# EAGLE library part PINHD-1X25 (library pinhead)
PIN HEADER
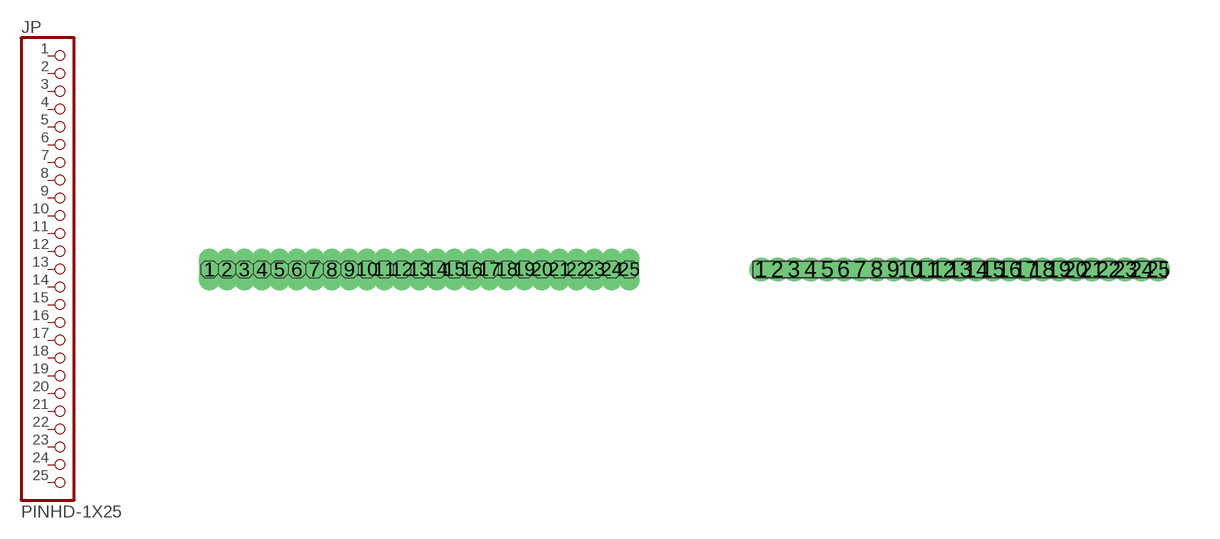
[diagram p17: symbol with the pads of 1X25; footprints 1X25, 2802S-02G2]

Designator prefix JP

## PINHD-1X25  [1X25]
1  1  pas
2  2  pas
3  3  pas
4  4  pas
5  5  pas
6  6  pas
7  7  pas
8  8  pas
9  9  pas
10  10  pas
11  11  pas
12  12  pas
13  13  pas
14  14  pas
15  15  pas
16  16  pas
17  17  pas
18  18  pas
19  19  pas
20  20  pas
21  21  pas
22  22  pas
23  23  pas
24  24  pas
25  25  pas

## PINHD-1X25_2802S-02G2  [2802S-02G2]
Pads as for 1X25

## Footprint 1X25 (pad centres in mm)
PIN HEADER
drill 0.254 long: 1 -7.303,0; 2 -6.668,0; 3 -6.032,0; 4 -5.397,0; 5 -4.763,0; 6 -4.128,0; 7 -3.493,0; 8 -2.857,0; 9 -2.223,0; 10 -1.587,0; 11 -0.953,0; 12 -0.318,0; 13 0.318,0; 14 0.953,0; 15 1.587,0; 16 2.223,0; 17 2.857,0; 18 3.493,0; 19 4.128,0; 20 4.763,0; 21 5.397,0; 22 6.032,0; 23 6.668,0; 24 7.303,0; 25 7.938,0

## Footprint 2802S-02G2 (pad centres in mm)
2mm Center - .020 inch Square Pin - Single Row Straight Header Source: http://www.commcon.com/main
drill 0.2 pad 0.356: 1 -6,0; 2 -5.5,0; 3 -5,0; 4 -4.5,0; 5 -4,0; 6 -3.5,0; 7 -3,0; 8 -2.5,0; 9 -2,0; 10 -1.5,0; 11 -1,0; 12 -0.5,0; 13 0,0; 14 0.5,0; 15 1,0; 16 1.5,0; 17 2,0; 18 2.5,0; 19 3,0; 20 3.5,0; 21 4,0; 22 4.5,0; 23 5,0; 24 5.5,0; 25 6,0